# Altium schematic symbol library 开关.SchLib: 10 symbols
Pins are listed as number, name and electrical type; pins without a type are passive.

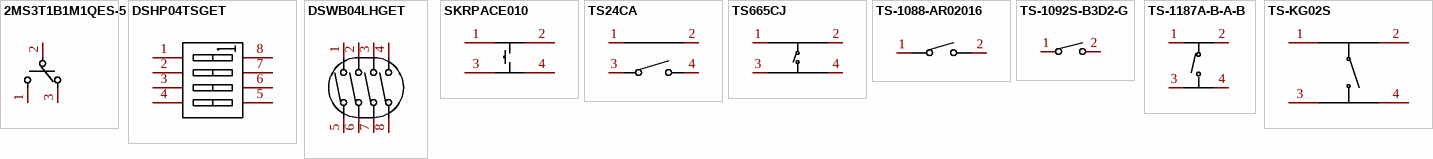
[diagram p0: symbols 2MS3T1B1M1QES-5 to TS-KG02S]

## 2MS3T1B1M1QES-5
designator SW??  (value not drawn)
Manufacturer: Dailywell(德利威); Add into BOM: yes; Contact Current: 3A; Voltage Rating (AC): 120V; Voltage Rating (DC): 28V; Circuit: 单刀双掷; Mechanical Life: 30000; Actuator Type: 圆柱钮柄; Pin Style: 焊片; Name: 2MS3T1B1M1QES-5; Symbol: 2MS3T1B1M1QES-5; Device: 2MS3T1B1M1QES-5; LCSC Part Name: 2M系列 钮子开关 摇头开关 3件套; Supplier Part: C908281; Manufacturer Part: 2MS3T1B1M1QES-5; Supplier Footprint: 插件; JLCPCB Part Class: Extended Part; Datasheet: https://atta.szlcsc.com/upload/public/pdf/source/20200324/C496170_954A7394085DEA4CF4EC9443DF401EBE.pdf; Supplier: LCSC; Convert to PCB: yes; Mounting Style: 直插; Operating Temperature: -40℃~+85℃
footprint SW-TH_2MS3T1B1M1QES-5
3D model SW-TH_2MS3T1B1M1QES-5
pins: 1, 2, 3

## DSHP04TSGET
designator SW??  (value not drawn)
Manufacturer: YE; Symbol: DSHP04TSGER; Add into BOM: yes; Circuit: 单刀单掷; Number of Positions: 4; Name: DSHP04TSGET; Device: DSHP04TSGET; LCSC Part Name: 4位 1.27间距; Supplier Part: C40736; Manufacturer Part: DSHP04TSGET; Supplier Footprint: SMD-8P,6.6x5.4mm; JLCPCB Part Class: Extended Part; Datasheet: https://atta.szlcsc.com/upload/public/pdf/source/20150928/1457707425288.pdf; Supplier: LCSC; Convert to PCB: yes; Type: 平拨，凹槽式; Lead Pitch: 1.27mm; Color: 黑色
footprint SW-SMD_8P-L6.7-W5.4-P1.27-LS8.4
3D model SW-SMD_8P-L6.7-W5.4-H2.3-LS8.4-P1.27
pins: 1 A1, 2 A2, 3 A3, 4 A4, 5 B4, 6 B3, 7 B2, 8 B1

## DSWB04LHGET
designator SW??  (value not drawn)
Manufacturer: YE; Add into BOM: yes; Circuit: 单刀单掷; Number of Positions: 4; Name: DSWB04LHGET; Symbol: DSWB04LHGET; Device: DSWB04LHGET; LCSC Part Name: 间距2.54mm 平拨,凸起式 4位拨码开关; Supplier Part: C99418; Manufacturer Part: DSWB04LHGET; Supplier Footprint: 插件; JLCPCB Part Class: Extended Part; Datasheet: https://atta.szlcsc.com/upload/public/pdf/source/20220830/02827E67A8727938D957A3CE4C86C92D.pdf; Supplier: LCSC; Convert to PCB: yes; Type: 平拨,凸起式; Lead Pitch: 2.54mm; Operating Life: -; Color: 红色
footprint SW-TH_DSWB04LHGET
3D model SW-TH_DS-04
pins: 1, 2, 3, 4, 5, 6, 7, 8

## SKRPACE010
designator SW??  (value not drawn)
Manufacturer: ALPSALPINE(阿尔卑斯阿尔派); Add into BOM: yes; Contact Current: 50mA; Voltage Rating (DC): 16V; Circuit: 单刀单掷; Actuator Style: 椭圆形按钮; Switch Length: 4.2mm; Switch Width: 3.2mm; Switch Height: 2.5mm; Name: SKRPACE010; Symbol: SKRPACE010; Device: SKRPACE010; LCSC Part Name: 4.2*3.2*2.5mm 立贴 轻触开关; Supplier Part: C139797; Manufacturer Part: SKRPACE010; Supplier Footprint: SMD; JLCPCB Part Class: Extended Part; Datasheet: https://atta.szlcsc.com/upload/public/pdf/source/20171113/C139797_15105612676371115729.pdf; Supplier: LCSC; Convert to PCB: yes; Mounting Style: 立贴; With Lamp: -; Mechanical Life: -
footprint KEY-SMD_4P-L4.2-W3.2-P2.20-LS4.6
3D model KEY-SMD_4P-L4.2-W3.2-H2.5-LS4.6-P2.2
pins: 1, 2, 3, 4

## TS24CA
designator SW??  (value not drawn)
Manufacturer: SHOU HAN(首韩); Add into BOM: yes; Contact Current: 50mA; Voltage Rating (DC): 12V; Circuit: 单刀单掷; Actuator Style: 矩形按钮; Switch Length: 4.55mm; Switch Width: 1.8mm; Switch Height: 3.5mm; Name: TS24CA; Symbol: TS24CA; Device: TS24CA; LCSC Part Name: 4.55*1.8*3.5mm 卧贴 轻触开关; Supplier Part: C393942; Manufacturer Part: TS24CA; Supplier Footprint: SMD; JLCPCB Part Class: Extended Part; Datasheet: https://atta.szlcsc.com/upload/public/pdf/source/20190521/C393942_591A9E318887EFA4274D34029981AD99.pdf; Supplier: LCSC; Convert to PCB: yes; Mounting Style: 卧贴; With Lamp: -; Mechanical Life: -
footprint SW-SMD_TS24CA
3D model SW-SMD_TS24CA
pins: 1, 2, 3, 4

## TS665CJ
designator SW??  (value not drawn)
Manufacturer: SHOU HAN(首韩); Add into BOM: yes; Contact Current: 50mA; Voltage Rating (DC): 12V; Circuit: 单刀单掷; Actuator Style: 圆形按钮; Switch Length: 6mm; Switch Height: 5mm; Name: TS665CJ; Symbol: TS665CJ; Device: TS665CJ; LCSC Part Name: 6*6*5mm 直插 轻触开关; Supplier Part: C393938; Manufacturer Part: TS665CJ; Supplier Footprint: 插件; JLCPCB Part Class: Extended Part; Datasheet: https://atta.szlcsc.com/upload/public/pdf/source/20190521/C393938_BDABEAC600B4C55E200A80AA129B70BC.pdf; Supplier: LCSC; Convert to PCB: yes; Mounting Style: 直插; With Lamp: -; Mechanical Life: -; Switch Width: 6mm
footprint SW-TH_4P-L6.0-W6.0-P4.50-LS6.5
3D model SW-TH_4P-L6.0-W6.0-H5.0-LS6.5-P4.50
pins: 1 A, 2 B, 3 C, 4 D

## TS-1088-AR02016
designator SW??  (value not drawn)
Manufacturer: XUNPU(讯普); Add into BOM: yes; Contact Current: 50mA; Voltage Rating (DC): 12V; Insulation Resistance: 100MΩ; Circuit: 单刀单掷; Actuator Style: 圆形按钮; Actuator/Cap Color: 黑色; Operating Force: 160gf@±50gf; Mechanical Life: 10万次; Pin Style: SMD接片; Switch Length: 4mm; Switch Width: 3mm; Switch Height: 2mm; Strike Gundam: 否; Name: TS-1088-AR02016; Symbol: TS-1088-AR02016; Device: TS-1088-AR02016; LCSC Part Name: 4*3*2mm 立贴 轻触开关; Supplier Part: C720477; Manufacturer Part: TS-1088-AR02016; Supplier Footprint: SMD; JLCPCB Part Class: Extended Part; Datasheet: https://atta.szlcsc.com/upload/public/pdf/source/20200810/C720475_60D09DD6C54279ADDB2DC25100F1CC11.pdf; Supplier: LCSC; Convert to PCB: yes; Mounting Style: 立贴; Operating Temperature: -30℃~+80℃
footprint SW-SMD_L3.9-W3.0-P4.45
3D model SW-SMD_L3.9-W2.9-H2.0-LS4.8
pins: 1, 2

## TS-1092S-B3D2-G
designator SW??  (value not drawn)
Manufacturer: Yuandi(元迪); Add into BOM: yes; Circuit: 单刀单掷; Actuator Style: 矩形按钮; Actuator/Cap Color: 灰色; Operating Force: 250gf@±30gf; Pin Style: 鸥翼型; Switch Length: 6.1mm; Switch Width: 3.6mm; Switch Height: 2.5mm; Strike Gundam: 否; Name: TS-1092S-B3D2-G; Symbol: TS-1092S-B3D2-G; Device: TS-1092S-B3D2-G; LCSC Part Name: 6.1*3.6*2.5mm 立贴 轻触开关; Supplier Part: C520860; Manufacturer Part: TS-1092S-B3D2-G; Supplier Footprint: SMD; JLCPCB Part Class: Extended Part; Datasheet: https://atta.szlcsc.com/upload/public/pdf/source/20200424/C520860_DA5AE47D9A9DC527FC720B5FF0895739.pdf; Supplier: LCSC; Convert to PCB: yes; Mounting Style: 立贴; Mechanical Life: -
footprint SW-SMD_L6.1-W3.6-LS7.9
3D model KEY-SMD_2P-L6.0-W3.6-H2.5-LS8.0
pins: 1, 2

## TS-1187A-B-A-B
designator SW??  (value not drawn)
Manufacturer: XKB Connectivity(中国星坤); Add into BOM: yes; Contact Current: 50mA; Voltage Rating (DC): 12V; Circuit: 单刀单掷; Actuator Style: 圆形按钮; Actuator/Cap Color: 金色; With Lamp: 无; Operating Force: 160gf; Mechanical Life: 10万次; Switch Length: 5.1mm; Switch Height: 1.5mm; Strike Gundam: 否; Name: TS-1187A-B-A-B; Symbol: TS-1187A-B-A-B; Device: TS-1187A-B-A-B; LCSC Part Name: 5.1*5.1*1.5mm 立贴 轻触开关 防水金属头; Supplier Part: C318884; Manufacturer Part: TS-1187A-B-A-B; Supplier Footprint: SMD; JLCPCB Part Class: Basic Part; Datasheet: https://atta.szlcsc.com/upload/public/pdf/source/20200227/C318884_1F20165719E1C4CAA3E10C4C359C6E26.pdf; Supplier: LCSC; Convert to PCB: yes; Insulation Resistance: -; Mounting Style: 立贴; Operating Temperature: -30℃~+85℃; Switch Width: 5.1mm
footprint SW-SMD_4P-L5.1-W5.1-P3.70-LS6.5-TL-2
3D model SW-SMD_4P-L5.2-W5.2-H1.5-LS6.4-P3.70
pins: 1 A, 2 B, 3 C, 4 D

## TS-KG02S
designator SW??  (value not drawn)
Manufacturer: HANBO(汉博); Add into BOM: yes; Contact Current: 50mA; Voltage Rating (DC): 12V; Insulation Resistance: 100MΩ; Circuit: 单刀单掷; Actuator Style: 圆形按钮; Switch Length: 6mm; Switch Height: 4.3mm; Name: TS-KG02S; Symbol: TS-KG02S; Device: TS-KG02S; LCSC Part Name: 6*6*4.3mm 立贴 轻触开关; Supplier Part: C410366; Manufacturer Part: TS-KG02S; Supplier Footprint: SMD,6x6mm; JLCPCB Part Class: Extended Part; Datasheet: https://atta.szlcsc.com/upload/public/pdf/source/20221110/4B16732C66B2A039D9853E84B21A4EEA.pdf; Supplier: LCSC; Convert to PCB: yes; Mounting Style: 立贴; With Lamp: -; Mechanical Life: -; Switch Width: 6mm
footprint SW-SMD_4P-L6.0-W6.0-P3.90-LS9.5
3D model SW-SMD_4P-L6.3-W6.0-H3.1-P4.5-LS8.0
pins: 1, 2, 3, 4